# EAGLE library part STM32F4DISCOVERY-CONNECTOR (library stm32f4Discovery_connector)
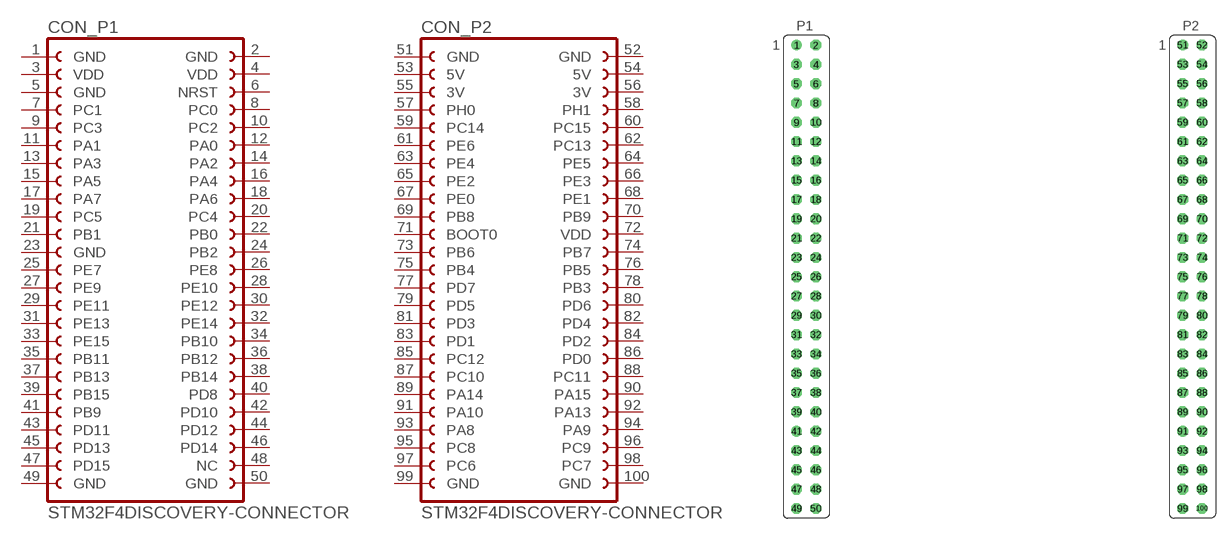
[diagram p0: symbol with the pads of STM32F4DISCOVERY_CONNECTOR; footprint STM32F4DISCOVERY_CONNECTOR]

Designator prefix CON; gates _P1=STM32F4_DISCOVERY_P1 _P2=STM32F4_DISCOVERY_P2

## STM32F4DISCOVERY-CONNECTOR  [STM32F4DISCOVERY_CONNECTOR]
1  _P1:GND  pas
2  _P1:GND  pas
3  _P1:VDD  pas
4  _P1:VDD  pas
5  _P1:GND  pas
6  _P1:NRST  pas
7  _P1:PC1  pas
8  _P1:PC0  pas
9  _P1:PC3  pas
10  _P1:PC2  pas
11  _P1:PA1  pas
12  _P1:PA0  pas
13  _P1:PA3  pas
14  _P1:PA2  pas
15  _P1:PA5  pas
16  _P1:PA4  pas
17  _P1:PA7  pas
18  _P1:PA6  pas
19  _P1:PC5  pas
20  _P1:PC4  pas
21  _P1:PB1  pas
22  _P1:PB0  pas
23  _P1:GND  pas
24  _P1:PB2  pas
25  _P1:PE7  pas
26  _P1:PE8  pas
27  _P1:PE9  pas
28  _P1:PE10  pas
29  _P1:PE11  pas
30  _P1:PE12  pas
31  _P1:PE13  pas
32  _P1:PE14  pas
33  _P1:PE15  pas
34  _P1:PB10  pas
35  _P1:PB11  pas
36  _P1:PB12  pas
37  _P1:PB13  pas
38  _P1:PB14  pas
39  _P1:PB15  pas
40  _P1:PD8  pas
41  _P1:PB9  pas
42  _P1:PD10  pas
43  _P1:PD11  pas
44  _P1:PD12  pas
45  _P1:PD13  pas
46  _P1:PD14  pas
47  _P1:PD15  pas
48  _P1:NC  pas
49  _P1:GND  pas
50  _P1:GND  pas
51  _P2:GND  pas
52  _P2:GND  pas
53  _P2:5V  pas
54  _P2:5V  pas
55  _P2:3V  pas
56  _P2:3V  pas
57  _P2:PH0  pas
58  _P2:PH1  pas
59  _P2:PC14  pas
60  _P2:PC15  pas
61  _P2:PE6  pas
62  _P2:PC13  pas
63  _P2:PE4  pas
64  _P2:PE5  pas
65  _P2:PE2  pas
66  _P2:PE3  pas
67  _P2:PE0  pas
68  _P2:PE1  pas
69  _P2:PB8  pas
70  _P2:PB9  pas
71  _P2:BOOT0  pas
72  _P2:VDD  pas
73  _P2:PB6  pas
74  _P2:PB7  pas
75  _P2:PB4  pas
76  _P2:PB5  pas
77  _P2:PD7  pas
78  _P2:PB3  pas
79  _P2:PD5  pas
80  _P2:PD6  pas
81  _P2:PD3  pas
82  _P2:PD4  pas
83  _P2:PD1  pas
84  _P2:PD2  pas
85  _P2:PC12  pas
86  _P2:PD0  pas
87  _P2:PC10  pas
88  _P2:PC11  pas
89  _P2:PA14  pas
90  _P2:PA15  pas
91  _P2:PA10  pas
92  _P2:PA13  pas
93  _P2:PA8  pas
94  _P2:PA9  pas
95  _P2:PC8  pas
96  _P2:PC9  pas
97  _P2:PC6  pas
98  _P2:PC7  pas
99  _P2:GND  pas
100  _P2:GND  pas

## Footprint STM32F4DISCOVERY_CONNECTOR (pad centres in mm)
FEMALE HEADER
drill 0.914: 1 -1.27,30.48; 41 -1.27,-20.32; 51 49.53,30.48; 91 49.53,-20.32
drill 0.914 octagon: 2 1.27,30.48; 3 -1.27,27.94; 4 1.27,27.94; 5 -1.27,25.4; 6 1.27,25.4; 7 -1.27,22.86; 8 1.27,22.86; 9 -1.27,20.32; 10 1.27,20.32; 11 -1.27,17.78; 12 1.27,17.78; 13 -1.27,15.24; 14 1.27,15.24; 15 -1.27,12.7; 16 1.27,12.7; 17 -1.27,10.16; 18 1.27,10.16; 19 -1.27,7.62; 20 1.27,7.62; 21 -1.27,5.08; 22 1.27,5.08; 23 -1.27,2.54; 24 1.27,2.54; 25 -1.27,0; 26 1.27,0; 27 -1.27,-2.54; 28 1.27,-2.54; 29 -1.27,-5.08; 30 1.27,-5.08; 31 -1.27,-7.62; 32 1.27,-7.62; 33 -1.27,-10.16; 34 1.27,-10.16; 35 -1.27,-12.7; 36 1.27,-12.7; 37 -1.27,-15.24; 38 1.27,-15.24; 39 -1.27,-17.78; 40 1.27,-17.78; 42 1.27,-20.32; 43 -1.27,-22.86; 44 1.27,-22.86; 45 -1.27,-25.4; 46 1.27,-25.4; 47 -1.27,-27.94; 48 1.27,-27.94; 49 -1.27,-30.48; 50 1.27,-30.48; 52 52.07,30.48; 53 49.53,27.94; 54 52.07,27.94; 55 49.53,25.4; 56 52.07,25.4; 57 49.53,22.86; 58 52.07,22.86; 59 49.53,20.32; 60 52.07,20.32; 61 49.53,17.78; 62 52.07,17.78; 63 49.53,15.24; 64 52.07,15.24; 65 49.53,12.7; 66 52.07,12.7; 67 49.53,10.16; 68 52.07,10.16; 69 49.53,7.62; 70 52.07,7.62; 71 49.53,5.08; 72 52.07,5.08; 73 49.53,2.54; 74 52.07,2.54; 75 49.53,0; 76 52.07,0; 77 49.53,-2.54; 78 52.07,-2.54; 79 49.53,-5.08; 80 52.07,-5.08; 81 49.53,-7.62; 82 52.07,-7.62; 83 49.53,-10.16; 84 52.07,-10.16; 85 49.53,-12.7; 86 52.07,-12.7; 87 49.53,-15.24; 88 52.07,-15.24; 89 49.53,-17.78; 90 52.07,-17.78; 92 52.07,-20.32; 93 49.53,-22.86; 94 52.07,-22.86; 95 49.53,-25.4; 96 52.07,-25.4; 97 49.53,-27.94; 98 52.07,-27.94; 99 49.53,-30.48; 100 52.07,-30.48